# Altium schematic symbol library BC847A-7-F.SchLib: 1 symbol
Pins are listed as number, name and electrical type; pins without a type are passive.

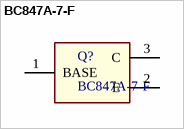
[diagram p0: symbol BC847A-7-F]

## BC847A-7-F
designator Q?
Transistor NPN 45V 0.1A SOT23 | Diodes Inc BC847A-7-F
footprint BC847A-7-F (Transistor NPN 45V 0.1A SOT23)
pins: 1 BASE, 2 E, 3 C